# Altium schematic symbol library J_B4B-PH-SM4-TB.SchLib: 1 symbol
Pins are listed as number, name and electrical type; pins without a type are passive.

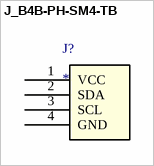
[diagram p0: symbol J_B4B-PH-SM4-TB]

## J_B4B-PH-SM4-TB
designator J?
No Description Available; Mfr_Name: JST; RefDes: RefDes; Type: Type
footprint CONN_B4B-PH-SM4-TB_JST
footprint CONN_B4B-PH-SM4-TB_JST
pins: 1 VCC, 2 SDA, 3 SCL, 4 GND